# EAGLE library part ZXTAM322 (library zetex)
15V NPN LOW SATURATION TRANSISTOR MPPS Miniature Package Power Solutions Source: www.zetex.com/ .. zxtam322.pdf
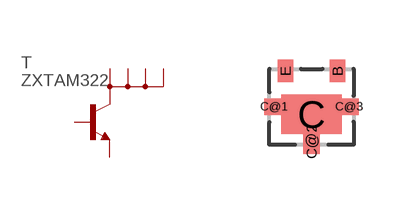
[diagram p15: symbol with the pads of MLP322; footprint MLP322]

Designator prefix T

## ZXTAM322  [MLP322]
B  B  pas
C  C1  pas
C@1  C2  pas
C@2  C3  pas
C@3  C4  pas
E  E  pas

## Footprint MLP322 (pad centres in mm)
MLP322 Package Source: www.zetex.com/ .. zxtam322.pdf
smd 0.38 x 0.55: B 0.65,0.9; E -0.65,0.9
smd 1.52 x 0.99: C 0,-0.188
smd 0.475 x 0.4: C@1 -0.938,0; C@3 0.938,0
smd 0.4 x 0.6: C@2 0,-0.875